# EAGLE library part AS3935 (library Gadgeteer)
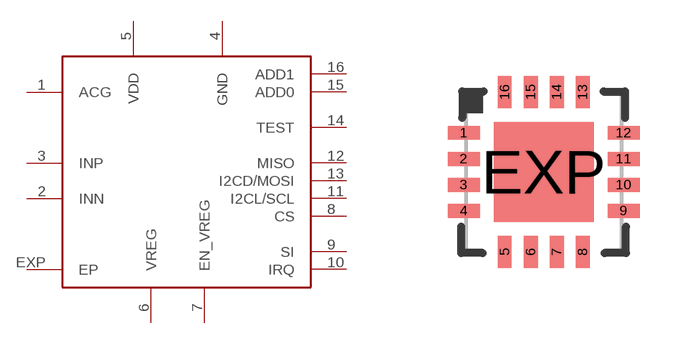
[diagram p1: symbol with the pads of QFN16_4X4MM; footprint QFN16_4X4MM]

Designator prefix -

## AS3935  [QFN16_4X4MM]
1  ACG  in
2  INN
3  INP
4  GND  pwr
5  VDD
6  VREG
7  EN_VREG
8  CS
9  SI
10  IRQ
11  I2CL/SCL
12  MISO
13  I2CD/MOSI
14  TEST
15  ADD0
16  ADD1
EXP  EP

## Footprint QFN16_4X4MM (pad centres in mm)
smd 0.8 x 0.35: 1 -2,0.975; 2 -2,0.325; 3 -2,-0.325; 4 -2,-0.975; 9 2,-0.975; 10 2,-0.325; 11 2,0.325; 12 2,0.975
smd 0.35 x 0.8: 5 -0.975,-2; 6 -0.325,-2; 7 0.325,-2; 8 0.975,-2; 13 0.975,2; 14 0.325,2; 15 -0.325,2; 16 -0.975,2
smd 2.5 x 2.5: EXP 0,0